# Altium integrated library OSTTA020161.IntLib: 1 symbol
Pins are listed as number, name and electrical type; pins without a type are passive.

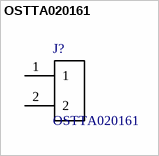
[diagram p0: symbol OSTTA020161]

## OSTTA020161
designator J?
Connector Terminal Blocks 2 Position 5mm Solder Straight Thru-Hole 16A; MF: On Shore; SnapEDA_Link: https://www.snapeda.com/parts/OSTTA020161/On%20Shore%20Technology%20Inc./view-part/?ref=snap; Availability: Unavailable; MP: OSTTA020161; Package: None; Price: None; Value: *
footprint *OST_OSTTA020161
pins: 1, 2